# Altium integrated library Analog Devices Data Converters Digital-to-Analog Converters.IntLib: 2231 symbols (part 77 of 181)
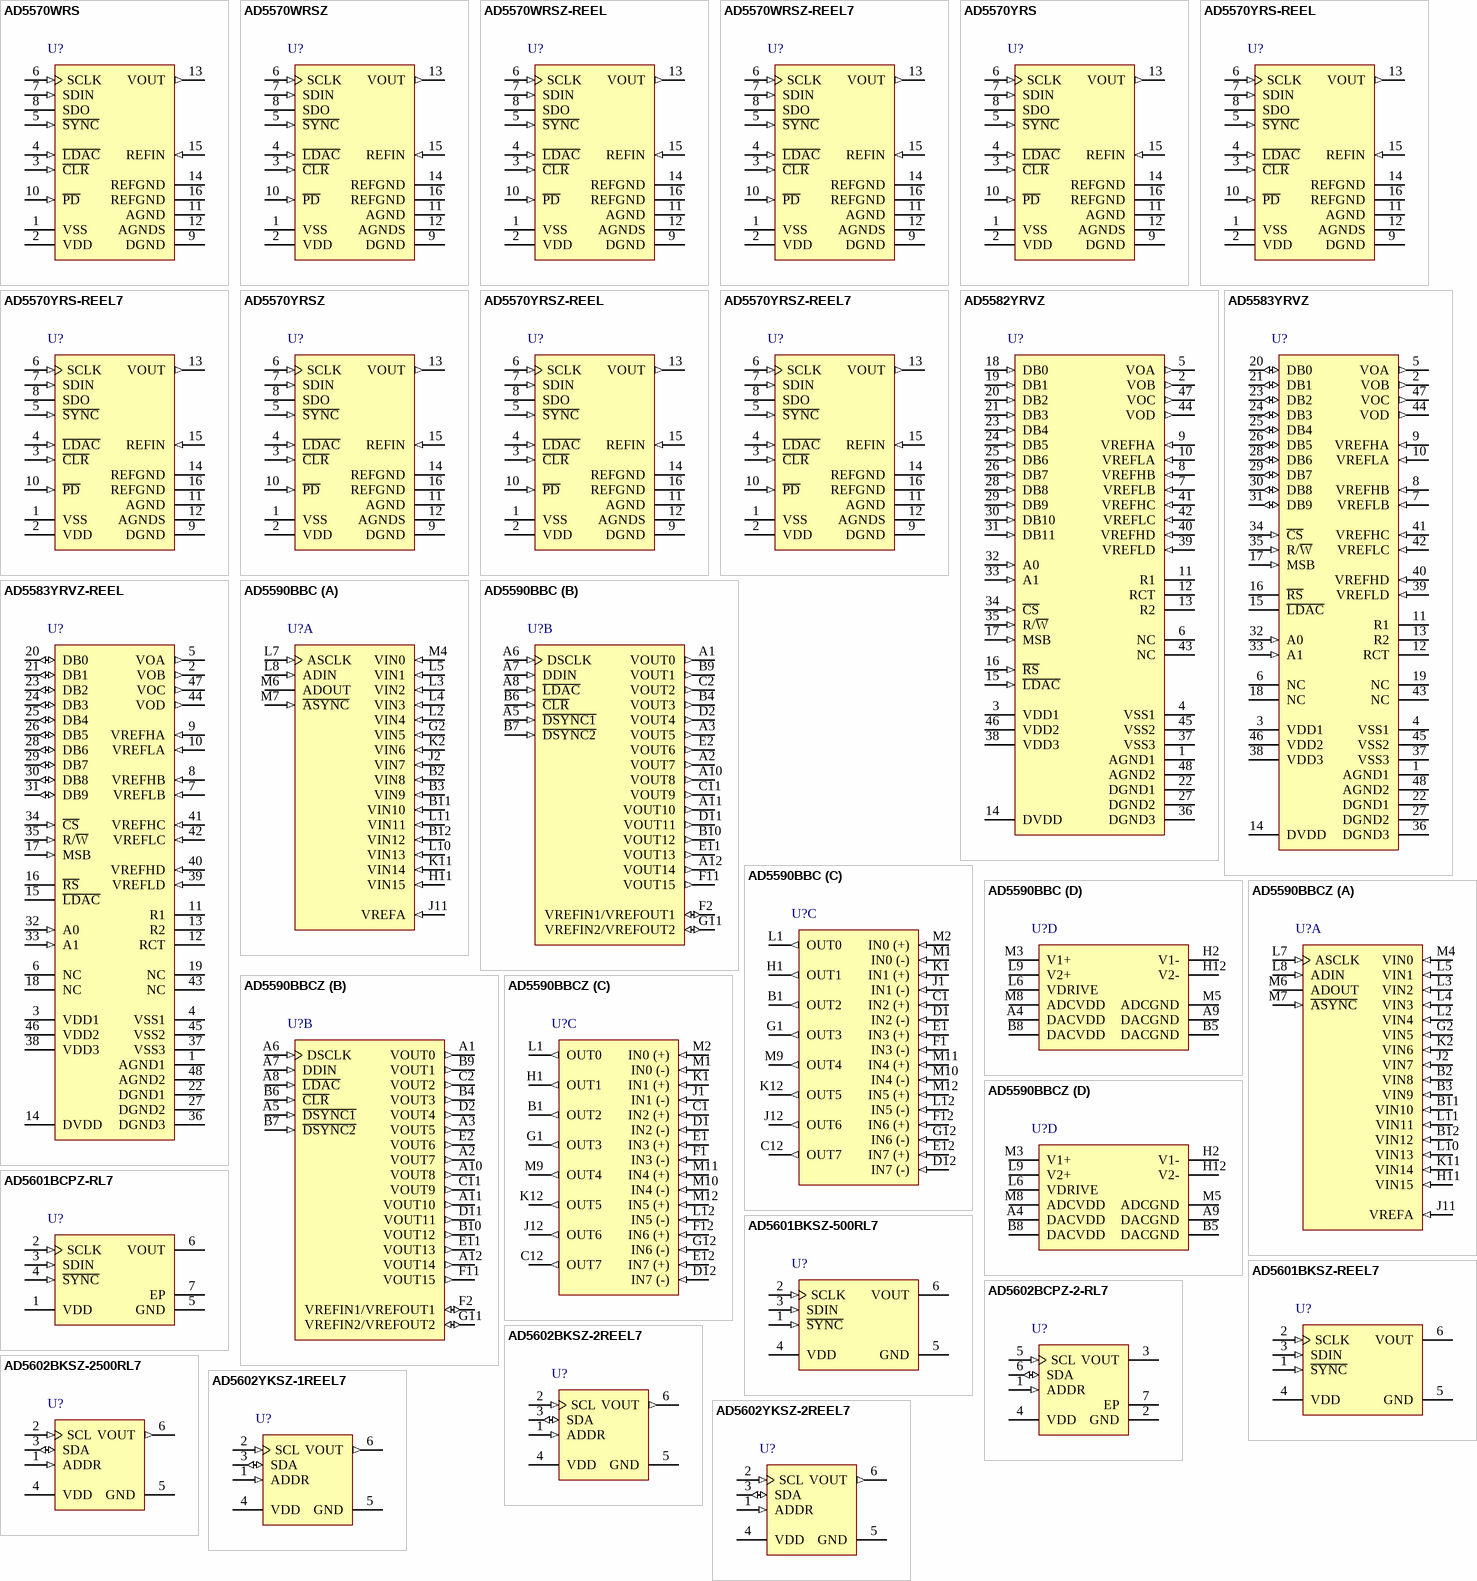
[diagram p190: symbols AD5570WRS to AD5602YKSZ-2REEL7]

## AD5590BBC
designator U?
16 Input, 16 Output Analog I/O Port with Integrated Amplifiers, -40 to +85 degC, BC-80-2, Tray; Generic Part Number: AD5590; Manufacturer: Analog Devices; PartNumber: AD5590BBC; # DAC Outputs: 16; Max V+: 5.25V; Op Pwr Diss: 25mw; Resolution (Bits): 12; Settling Time: 6µs; Single Supply: Yes; DatasheetVersion: Rev.A; PackageVersion: 011007-A; PackageReference: BC-80-2; PackageDescription: 80-Ball Chip Scale Package Ball Grid Array [CSP_BGA]; Supplier 1: Digi-Key; Supplier Part Number 1: AD5590BBC-ND; Supplier 2: Newark; Supplier Part Number 2: 19P8265; Supplier 3: Mouser; Supplier Part Number 3: 584-AD5590BBC; Packing: Tray; RoHS: N; Mounting Technology: Surface Mount; Code_JEDEC: MO-205-AC*; ComponentLink1Description: Manufacturer URL; ComponentLink1URL: http://www.analog.com/en/index.html; ComponentLink2Description: Datasheet; ComponentLink2URL: http://www.analog.com/static/imported-files/data_sheets/AD5590.pdf; ComponentLink3Description: Package Specification; ComponentLink3URL: http://www.analog.com/static/imported-files/packages/PKG_PDF/CSPBGA%20(BC)/BC_80_2.pdf; ComponentLink4Description: Product URL; ComponentLink4URL: http://www.analog.com/en/digital-to-analog-converters/da-converters/ad5590/products/product.html
footprint BC-80-2 (BGA, 80-Leads, Body 10x10mm, Pitch 0.8mm)
part A pins: B2 VIN8 (in) "Analog Input 0 through Analog Input 15. Sixteen single-ended analog input channels that are multiplexed into the on-chip track and hold. The analog input channel to be converted is selected by using the ADD3 through ADD0 (See Datasheet)", B3 VIN9 (in) "Analog Input 0 through Analog Input 15. Sixteen single-ended analog input channels that are multiplexed into the on-chip track and hold. The analog input channel to be converted is selected by using the ADD3 through ADD0 (See Datasheet)", B11 VIN10 (in) "Analog Input 0 through Analog Input 15. Sixteen single-ended analog input channels that are multiplexed into the on-chip track and hold. The analog input channel to be converted is selected by using the ADD3 through ADD0 (See Datasheet)", B12 VIN12 (in) "Analog Input 0 through Analog Input 15. Sixteen single-ended analog input channels that are multiplexed into the on-chip track and hold. The analog input channel to be converted is selected by using the ADD3 through ADD0 (See Datasheet)", G2 VIN5 (in) "Analog Input 0 through Analog Input 15. Sixteen single-ended analog input channels that are multiplexed into the on-chip track and hold. The analog input channel to be converted is selected by using the ADD3 through ADD0 (See Datasheet)", H11 VIN15 (in) "Analog Input 0 through Analog Input 15. Sixteen single-ended analog input channels that are multiplexed into the on-chip track and hold. The analog input channel to be converted is selected by using the ADD3 through ADD0 (See Datasheet)", J2 VIN7 (in) "Analog Input 0 through Analog Input 15. Sixteen single-ended analog input channels that are multiplexed into the on-chip track and hold. The analog input channel to be converted is selected by using the ADD3 through ADD0 (See Datasheet)", J11 VREFA (in) "Reference Input for the ADC Block. An external reference must be applied to this input. The voltage range for the external reference is 2.5 V +/- 1% for specified performance.", K2 VIN6 (in) "Analog Input 0 through Analog Input 15. Sixteen single-ended analog input channels that are multiplexed into the on-chip track and hold. The analog input channel to be converted is selected by using the ADD3 through ADD0 (See Datasheet)", K11 VIN14 (in) "Analog Input 0 through Analog Input 15. Sixteen single-ended analog input channels that are multiplexed into the on-chip track and hold. The analog input channel to be converted is selected by using the ADD3 through ADD0 (See Datasheet)", L2 VIN4 (in) "Analog Input 0 through Analog Input 15. Sixteen single-ended analog input channels that are multiplexed into the on-chip track and hold. The analog input channel to be converted is selected by using the ADD3 through ADD0 (See Datasheet)", L3 VIN2 (in) "Analog Input 0 through Analog Input 15. Sixteen single-ended analog input channels that are multiplexed into the on-chip track and hold. The analog input channel to be converted is selected by using the ADD3 through ADD0 (See Datasheet)", L4 VIN3 (in) "Analog Input 0 through Analog Input 15. Sixteen single-ended analog input channels that are multiplexed into the on-chip track and hold. The analog input channel to be converted is selected by using the ADD3 through ADD0 (See Datasheet)", L5 VIN1 (in) "Analog Input 0 through Analog Input 15. Sixteen single-ended analog input channels that are multiplexed into the on-chip track and hold. The analog input channel to be converted is selected by using the ADD3 through ADD0 (See Datasheet)", L7 ASCLK (in) "Serial Clock. Logic input. ASCLK provides the serial clock for accessing data from the ADC block. This clock input is also used as the clock source for the conversion process of the ADC.", L8 ADIN (in) "ADC Data In. Logic input. Data to be written to the control register of the ADC is provided on this input and is clocked into the register on the falling edge of ASCLK (see the Accessing the ADC Block section).", L10 VIN13 (in) "Analog Input 0 through Analog Input 15. Sixteen single-ended analog input channels that are multiplexed into the on-chip track and hold. The analog input channel to be converted is selected by using the ADD3 through ADD0 (See Datasheet)", L11 VIN11 (in) "Analog Input 0 through Analog Input 15. Sixteen single-ended analog input channels that are multiplexed into the on-chip track and hold. The analog input channel to be converted is selected by using the ADD3 through ADD0 (See Datasheet)", M4 VIN0 (in) "Analog Input 0 through Analog Input 15. Sixteen single-ended analog input channels that are multiplexed into the on-chip track and hold. The analog input channel to be converted is selected by using the ADD3 through ADD0 (See Datasheet)", M6 ADOUT (hiz) "Data Out. Logic output. The conversion result from the ADC block is provided on this output as a serial data stream. The bits are clocked out on the falling edge of the ASCLK input. The data stream consists of four address (See Datasheet)", M7 ~{ASYNC} (in) "Frame Synchronization Signal. Active low logic input. This input provides the dual function of  initiating ADC conversions and also frames the serial data transfer."
part B pins: A1 VOUT0 (out) "Analog Output Voltage from DAC0 to DAC7. D\S\Y\N\C\1\ is the frame synchronization signal for writing data to these DACs. The DAC is updated automatically if L\D\A\C\ is low, or on the falling edge of L\D\A\C\ if it is high. (See Datasheet)", A2 VOUT7 (out) "Analog Output Voltage from DAC0 to DAC7. D\S\Y\N\C\1\ is the frame synchronization signal for writing data to these DACs. The DAC is updated automatically if L\D\A\C\ is low, or on the falling edge of L\D\A\C\ if it is high. (See Datasheet)", A3 VOUT5 (out) "Analog Output Voltage from DAC0 to DAC7. D\S\Y\N\C\1\ is the frame synchronization signal for writing data to these DACs. The DAC is updated automatically if L\D\A\C\ is low, or on the falling edge of L\D\A\C\ if it is high. (See Datasheet)", A5 ~{DSYNC1} (in) "Active Low Control Input. This is the frame synchronization signal for the input data of DAC channels VOUT0 to VOUT7. When D\S\Y\N\C\1\ goes low, it powers on the DSCLK and DDIN buffers and enables the input shift register. (See Datasheet)", A6 DSCLK (in) "DAC Clock Input. Data is clocked into the input shift register on the falling edge of the serial clock input. Data can be transferred at rates of up to 50 MHz.", A7 DDIN (in) "DAC Data Input. This DAC has a 32-bit shift register. Data is clocked into the register on the falling edge of the serial clock input.", A8 ~{LDAC} (in) "Pulsing this pin low allows any or all DAC registers to be updated if the input registers have new data. This allows all DAC outputs to simultaneously update. Alternatively, this pin can be tied permanently low.", A10 VOUT8 (out) "Analog Output Voltage from DAC8 to DAC15. D\S\Y\N\C\2\ is the frame synchronization signal for writing data to these DACs. The DAC is updated automatically if L\D\A\C\ is low, or on the falling edge of L\D\A\C\ if it is high.(See Datasheet)", A11 VOUT10 (out) "Analog Output Voltage from DAC8 to DAC15. D\S\Y\N\C\2\ is the frame synchronization signal for writing data to these DACs. The DAC is updated automatically if L\D\A\C\ is low, or on the falling edge of L\D\A\C\ if it is high.(See Datasheet)", A12 VOUT14 (out) "Analog Output Voltage from DAC8 to DAC15. D\S\Y\N\C\2\ is the frame synchronization signal for writing data to these DACs. The DAC is updated automatically if L\D\A\C\ is low, or on the falling edge of L\D\A\C\ if it is high.(See Datasheet)", B4 VOUT3 (out) "Analog Output Voltage from DAC0 to DAC7. D\S\Y\N\C\1\ is the frame synchronization signal for writing data to these DACs. The DAC is updated automatically if L\D\A\C\ is low, or on the falling edge of L\D\A\C\ if it is high. (See Datasheet)", B6 ~{CLR} (in) "Asynchronous Clear Input. The C\L\R\ input is falling edge sensitive. When C\L\R\ is low, all L\D\A\C\ pulses are ignored. When C\L\R\ is activated, the input register and the DAC register are updated with the data contained (See Datasheet)", B7 ~{DSYNC2} (in) "Active Low Control Input. This is the frame synchronization signal for the input data of DAC channels VOUT8 to VOUT15. When D\S\Y\N\C\2\ goes low, it powers on the DSCLK and DDIN buffers and enables the input shift register. (See Datasheet)", B9 VOUT1 (out) "Analog Output Voltage from DAC0 to DAC7. D\S\Y\N\C\1\ is the frame synchronization signal for writing data to these DACs. The DAC is updated automatically if L\D\A\C\ is low, or on the falling edge of L\D\A\C\ if it is high. (See Datasheet)", B10 VOUT12 (out) "Analog Output Voltage from DAC8 to DAC15. D\S\Y\N\C\2\ is the frame synchronization signal for writing data to these DACs. The DAC is updated automatically if L\D\A\C\ is low, or on the falling edge of L\D\A\C\ if it is high.(See Datasheet)", C2 VOUT2 (out) "Analog Output Voltage from DAC0 to DAC7. D\S\Y\N\C\1\ is the frame synchronization signal for writing data to these DACs. The DAC is updated automatically if L\D\A\C\ is low, or on the falling edge of L\D\A\C\ if it is high. (See Datasheet)", C11 VOUT9 (out) "Analog Output Voltage from DAC8 to DAC15. D\S\Y\N\C\2\ is the frame synchronization signal for writing data to these DACs. The DAC is updated automatically if L\D\A\C\ is low, or on the falling edge of L\D\A\C\ if it is high.(See Datasheet)", D2 VOUT4 (out) "Analog Output Voltage from DAC0 to DAC7. D\S\Y\N\C\1\ is the frame synchronization signal for writing data to these DACs. The DAC is updated automatically if L\D\A\C\ is low, or on the falling edge of L\D\A\C\ if it is high. (See Datasheet)", D11 VOUT11 (out) "Analog Output Voltage from DAC8 to DAC15. D\S\Y\N\C\2\ is the frame synchronization signal for writing data to these DACs. The DAC is updated automatically if L\D\A\C\ is low, or on the falling edge of L\D\A\C\ if it is high.(See Datasheet)", E2 VOUT6 (out) "Analog Output Voltage from DAC0 to DAC7. D\S\Y\N\C\1\ is the frame synchronization signal for writing data to these DACs. The DAC is updated automatically if L\D\A\C\ is low, or on the falling edge of L\D\A\C\ if it is high. (See Datasheet)", E11 VOUT13 (out) "Analog Output Voltage from DAC8 to DAC15. D\S\Y\N\C\2\ is the frame synchronization signal for writing data to these DACs. The DAC is updated automatically if L\D\A\C\ is low, or on the falling edge of L\D\A\C\ if it is high.(See Datasheet)", F2 VREFIN1/VREFOUT1 (io) "Reference Input/Output Pin for DAC0 to DAC7. The DACs have a common pin for reference input and reference output. When using the internal reference, this is the reference output pin. When using an external reference, this is (See Datasheet)", F11 VOUT15 (out) "Analog Output Voltage from DAC8 to DAC15. D\S\Y\N\C\2\ is the frame synchronization signal for writing data to these DACs. The DAC is updated automatically if L\D\A\C\ is low, or on the falling edge of L\D\A\C\ if it is high.(See Datasheet)", G11 VREFIN2/VREFOUT2 (io) "Reference Input/Output Pin for DAC8 to DAC15. The DACs have a common pin for reference input and reference output. When using the internal reference, this is the reference output pin. When using an external reference, this (See Datasheet)"
part C pins: B1 OUT2 (out) "Output Terminals for Operational Amplifier 0 to Amplifier 7.", C1 IN2 (+) (in) "Noninverting Input Terminals for Operational Amplifier 0 to Amplifier 7.", C12 OUT7 (out) "Output Terminals for Operational Amplifier 0 to Amplifier 7.", D1 IN2 (-) (in) "Inverting Input Terminals for Operational Amplifier 0 to Amplifier 7.", D12 IN7 (-) (in) "Inverting Input Terminals for Operational Amplifier 0 to Amplifier 7.", E1 IN3 (+) (in) "Noninverting Input Terminals for Operational Amplifier 0 to Amplifier 7.", E12 IN7 (+) (in) "Noninverting Input Terminals for Operational Amplifier 0 to Amplifier 7.", F1 IN3 (-) (in) "Inverting Input Terminals for Operational Amplifier 0 to Amplifier 7.", F12 IN6 (+) (in) "Noninverting Input Terminals for Operational Amplifier 0 to Amplifier 7.", G1 OUT3 (out) "Output Terminals for Operational Amplifier 0 to Amplifier 7.", G12 IN6 (-) (in) "Inverting Input Terminals for Operational Amplifier 0 to Amplifier 7.", H1 OUT1 (out) "Output Terminals for Operational Amplifier 0 to Amplifier 7.", J1 IN1 (-) (in) "Inverting Input Terminals for Operational Amplifier 0 to Amplifier 7.", J12 OUT6 (out) "Output Terminals for Operational Amplifier 0 to Amplifier 7.", K1 IN1 (+) (in) "Noninverting Input Terminals for Operational Amplifier 0 to Amplifier 7.", K12 OUT5 (out) "Output Terminals for Operational Amplifier 0 to Amplifier 7.", L1 OUT0 (out) "Output Terminals for Operational Amplifier 0 to Amplifier 7.", L12 IN5 (-) (in) "Inverting Input Terminals for Operational Amplifier 0 to Amplifier 7.", M1 IN0 (-) (in) "Inverting Input Terminals for Operational Amplifier 0 to Amplifier 7.", M2 IN0 (+) (in) "Noninverting Input Terminals for Operational Amplifier 0 to Amplifier 7.", M9 OUT4 (out) "Output Terminals for Operational Amplifier 0 to Amplifier 7.", M10 IN4 (-) (in) "Inverting Input Terminals for Operational Amplifier 0 to Amplifier 7.", M11 IN4 (+) (in) "Noninverting Input Terminals for Operational Amplifier 0 to Amplifier 7.", M12 IN5 (+) (in) "Noninverting Input Terminals for Operational Amplifier 0 to Amplifier 7."
part D pins: A4 DACVDD (power) "Power Supply Input for the DAC Block. The DAC can operate from 4.5 V to 5.25 V, and the supply should be decoupled with a 10 uF in parallel with a 0.1 uF capacitor to DACGND. The two DACVDD pins must be connected together.", A9 DACGND (power) "Ground Reference Point for the DAC Block. All DAC analog/digital input/output signals and any external reference signal should be referred to this DACGND voltage. The two DACGND pins should be connected together.", B5 DACGND (power) "Ground Reference Point for the DAC Block. All DAC analog/digital input/output signals and any external reference signal should be referred to this DACGND voltage. The two DACGND pins should be connected together.", B8 DACVDD (power) "Power Supply Input for the DAC Block. The DAC can operate from 4.5 V to 5.25 V, and the supply should be decoupled with a 10 uF in parallel with a 0.1 uF capacitor to DACGND. The two DACVDD pins must be connected together.", H2 V1- (power) "Negative Supply Input for Amplifier 0 to Amplifier 3.", H12 V2- (power) "Negative Supply Input for Amplifier 4 to Amplifier 7.", L6 VDRIVE (power) "Logic Power Supply Input. The voltage supplied at this pin determines at what voltage the serial interface of the ADC block operates.", L9 V2+ (power) "Positive Supply Input for Amplifier 4 to Amplifier 7. The supply for these amplifiers is independent of other supplies and can be operated with a different supply if required. The pin should be decoupled to V2- with a 10 uF (See Datasheet)", M3 V1+ (power) "Positive Supply Input for the amplifier 0 to amplifier 3. The supply for these amplifiers is independent of other supplies and can be operated with a different supply if required. The pin should be decoupled to V1- with a 10 (See Datasheet)", M5 ADCGND (power) "Ground Reference Point for the ADC Block. All ADC analog/digital input/output signals and any external reference signal should be referred to this ADCGND voltage.", M8 ADCVDD (power) "Power Supply Input for the ADC Block. The ADC can operate from 4.5 V to 5.25 V, and the supply should be decoupled with a 10 uF in parallel with a 0.1 uF capacitor to ADCGND."

## AD5590BBCZ
designator U?
16 Input, 16 Output Analog I/O Port with Integrated Amplifiers, -40 to +85 degC, BC-80-2, Pb-Free, Tray; Generic Part Number: AD5590; Manufacturer: Analog Devices; PartNumber: AD5590BBCZ; # DAC Outputs: 16; Max V+: 5.25V; Op Pwr Diss: 25mw; Resolution (Bits): 12; Settling Time: 6µs; Single Supply: Yes; DatasheetVersion: Rev.A; PackageVersion: 011007-A; PackageReference: BC-80-2; PackageDescription: 80-Ball Chip Scale Package Ball Grid Array [CSP_BGA]; Supplier 1: Digi-Key; Supplier Part Number 1: AD5590BBCZ-ND; Supplier 2: Newark; Supplier Part Number 2: 19P8266; Supplier 3: Mouser; Supplier Part Number 3: 584-AD5590BBCZ; Packing: Tray; RoHS: Y; Mounting Technology: Surface Mount; Code_JEDEC: MO-205-AC*; ComponentLink1Description: Manufacturer URL; ComponentLink1URL: http://www.analog.com/en/index.html; ComponentLink2Description: Datasheet; ComponentLink2URL: http://www.analog.com/static/imported-files/data_sheets/AD5590.pdf; ComponentLink3Description: Package Specification; ComponentLink3URL: http://www.analog.com/static/imported-files/packages/PKG_PDF/CSPBGA%20(BC)/BC_80_2.pdf; ComponentLink4Description: Product URL; ComponentLink4URL: http://www.analog.com/en/digital-to-analog-converters/da-converters/ad5590/products/product.html
footprint BC-80-2 (BGA, 80-Leads, Body 10x10mm, Pitch 0.8mm)
part A pins: B2 VIN8 (in) "Analog Input 0 through Analog Input 15. Sixteen single-ended analog input channels that are multiplexed into the on-chip track and hold. The analog input channel to be converted is selected by using the ADD3 through ADD0 (See Datasheet)", B3 VIN9 (in) "Analog Input 0 through Analog Input 15. Sixteen single-ended analog input channels that are multiplexed into the on-chip track and hold. The analog input channel to be converted is selected by using the ADD3 through ADD0 (See Datasheet)", B11 VIN10 (in) "Analog Input 0 through Analog Input 15. Sixteen single-ended analog input channels that are multiplexed into the on-chip track and hold. The analog input channel to be converted is selected by using the ADD3 through ADD0 (See Datasheet)", B12 VIN12 (in) "Analog Input 0 through Analog Input 15. Sixteen single-ended analog input channels that are multiplexed into the on-chip track and hold. The analog input channel to be converted is selected by using the ADD3 through ADD0 (See Datasheet)", G2 VIN5 (in) "Analog Input 0 through Analog Input 15. Sixteen single-ended analog input channels that are multiplexed into the on-chip track and hold. The analog input channel to be converted is selected by using the ADD3 through ADD0 (See Datasheet)", H11 VIN15 (in) "Analog Input 0 through Analog Input 15. Sixteen single-ended analog input channels that are multiplexed into the on-chip track and hold. The analog input channel to be converted is selected by using the ADD3 through ADD0 (See Datasheet)", J2 VIN7 (in) "Analog Input 0 through Analog Input 15. Sixteen single-ended analog input channels that are multiplexed into the on-chip track and hold. The analog input channel to be converted is selected by using the ADD3 through ADD0 (See Datasheet)", J11 VREFA (in) "Reference Input for the ADC Block. An external reference must be applied to this input. The voltage range for the external reference is 2.5 V +/- 1% for specified performance.", K2 VIN6 (in) "Analog Input 0 through Analog Input 15. Sixteen single-ended analog input channels that are multiplexed into the on-chip track and hold. The analog input channel to be converted is selected by using the ADD3 through ADD0 (See Datasheet)", K11 VIN14 (in) "Analog Input 0 through Analog Input 15. Sixteen single-ended analog input channels that are multiplexed into the on-chip track and hold. The analog input channel to be converted is selected by using the ADD3 through ADD0 (See Datasheet)", L2 VIN4 (in) "Analog Input 0 through Analog Input 15. Sixteen single-ended analog input channels that are multiplexed into the on-chip track and hold. The analog input channel to be converted is selected by using the ADD3 through ADD0 (See Datasheet)", L3 VIN2 (in) "Analog Input 0 through Analog Input 15. Sixteen single-ended analog input channels that are multiplexed into the on-chip track and hold. The analog input channel to be converted is selected by using the ADD3 through ADD0 (See Datasheet)", L4 VIN3 (in) "Analog Input 0 through Analog Input 15. Sixteen single-ended analog input channels that are multiplexed into the on-chip track and hold. The analog input channel to be converted is selected by using the ADD3 through ADD0 (See Datasheet)", L5 VIN1 (in) "Analog Input 0 through Analog Input 15. Sixteen single-ended analog input channels that are multiplexed into the on-chip track and hold. The analog input channel to be converted is selected by using the ADD3 through ADD0 (See Datasheet)", L7 ASCLK (in) "Serial Clock. Logic input. ASCLK provides the serial clock for accessing data from the ADC block. This clock input is also used as the clock source for the conversion process of the ADC.", L8 ADIN (in) "ADC Data In. Logic input. Data to be written to the control register of the ADC is provided on this input and is clocked into the register on the falling edge of ASCLK (see the Accessing the ADC Block section).", L10 VIN13 (in) "Analog Input 0 through Analog Input 15. Sixteen single-ended analog input channels that are multiplexed into the on-chip track and hold. The analog input channel to be converted is selected by using the ADD3 through ADD0 (See Datasheet)", L11 VIN11 (in) "Analog Input 0 through Analog Input 15. Sixteen single-ended analog input channels that are multiplexed into the on-chip track and hold. The analog input channel to be converted is selected by using the ADD3 through ADD0 (See Datasheet)", M4 VIN0 (in) "Analog Input 0 through Analog Input 15. Sixteen single-ended analog input channels that are multiplexed into the on-chip track and hold. The analog input channel to be converted is selected by using the ADD3 through ADD0 (See Datasheet)", M6 ADOUT (hiz) "Data Out. Logic output. The conversion result from the ADC block is provided on this output as a serial data stream. The bits are clocked out on the falling edge of the ASCLK input. The data stream consists of four address (See Datasheet)", M7 ~{ASYNC} (in) "Frame Synchronization Signal. Active low logic input. This input provides the dual function of  initiating ADC conversions and also frames the serial data transfer."
part B pins: A1 VOUT0 (out) "Analog Output Voltage from DAC0 to DAC7. D\S\Y\N\C\1\ is the frame synchronization signal for writing data to these DACs. The DAC is updated automatically if L\D\A\C\ is low, or on the falling edge of L\D\A\C\ if it is high. (See Datasheet)", A2 VOUT7 (out) "Analog Output Voltage from DAC0 to DAC7. D\S\Y\N\C\1\ is the frame synchronization signal for writing data to these DACs. The DAC is updated automatically if L\D\A\C\ is low, or on the falling edge of L\D\A\C\ if it is high. (See Datasheet)", A3 VOUT5 (out) "Analog Output Voltage from DAC0 to DAC7. D\S\Y\N\C\1\ is the frame synchronization signal for writing data to these DACs. The DAC is updated automatically if L\D\A\C\ is low, or on the falling edge of L\D\A\C\ if it is high. (See Datasheet)", A5 ~{DSYNC1} (in) "Active Low Control Input. This is the frame synchronization signal for the input data of DAC channels VOUT0 to VOUT7. When D\S\Y\N\C\1\ goes low, it powers on the DSCLK and DDIN buffers and enables the input shift register. (See Datasheet)", A6 DSCLK (in) "DAC Clock Input. Data is clocked into the input shift register on the falling edge of the serial clock input. Data can be transferred at rates of up to 50 MHz.", A7 DDIN (in) "DAC Data Input. This DAC has a 32-bit shift register. Data is clocked into the register on the falling edge of the serial clock input.", A8 ~{LDAC} (in) "Pulsing this pin low allows any or all DAC registers to be updated if the input registers have new data. This allows all DAC outputs to simultaneously update. Alternatively, this pin can be tied permanently low.", A10 VOUT8 (out) "Analog Output Voltage from DAC8 to DAC15. D\S\Y\N\C\2\ is the frame synchronization signal for writing data to these DACs. The DAC is updated automatically if L\D\A\C\ is low, or on the falling edge of L\D\A\C\ if it is high.(See Datasheet)", A11 VOUT10 (out) "Analog Output Voltage from DAC8 to DAC15. D\S\Y\N\C\2\ is the frame synchronization signal for writing data to these DACs. The DAC is updated automatically if L\D\A\C\ is low, or on the falling edge of L\D\A\C\ if it is high.(See Datasheet)", A12 VOUT14 (out) "Analog Output Voltage from DAC8 to DAC15. D\S\Y\N\C\2\ is the frame synchronization signal for writing data to these DACs. The DAC is updated automatically if L\D\A\C\ is low, or on the falling edge of L\D\A\C\ if it is high.(See Datasheet)", B4 VOUT3 (out) "Analog Output Voltage from DAC0 to DAC7. D\S\Y\N\C\1\ is the frame synchronization signal for writing data to these DACs. The DAC is updated automatically if L\D\A\C\ is low, or on the falling edge of L\D\A\C\ if it is high. (See Datasheet)", B6 ~{CLR} (in) "Asynchronous Clear Input. The C\L\R\ input is falling edge sensitive. When C\L\R\ is low, all L\D\A\C\ pulses are ignored. When C\L\R\ is activated, the input register and the DAC register are updated with the data contained (See Datasheet)", B7 ~{DSYNC2} (in) "Active Low Control Input. This is the frame synchronization signal for the input data of DAC channels VOUT8 to VOUT15. When D\S\Y\N\C\2\ goes low, it powers on the DSCLK and DDIN buffers and enables the input shift register. (See Datasheet)", B9 VOUT1 (out) "Analog Output Voltage from DAC0 to DAC7. D\S\Y\N\C\1\ is the frame synchronization signal for writing data to these DACs. The DAC is updated automatically if L\D\A\C\ is low, or on the falling edge of L\D\A\C\ if it is high. (See Datasheet)", B10 VOUT12 (out) "Analog Output Voltage from DAC8 to DAC15. D\S\Y\N\C\2\ is the frame synchronization signal for writing data to these DACs. The DAC is updated automatically if L\D\A\C\ is low, or on the falling edge of L\D\A\C\ if it is high.(See Datasheet)", C2 VOUT2 (out) "Analog Output Voltage from DAC0 to DAC7. D\S\Y\N\C\1\ is the frame synchronization signal for writing data to these DACs. The DAC is updated automatically if L\D\A\C\ is low, or on the falling edge of L\D\A\C\ if it is high. (See Datasheet)", C11 VOUT9 (out) "Analog Output Voltage from DAC8 to DAC15. D\S\Y\N\C\2\ is the frame synchronization signal for writing data to these DACs. The DAC is updated automatically if L\D\A\C\ is low, or on the falling edge of L\D\A\C\ if it is high.(See Datasheet)", D2 VOUT4 (out) "Analog Output Voltage from DAC0 to DAC7. D\S\Y\N\C\1\ is the frame synchronization signal for writing data to these DACs. The DAC is updated automatically if L\D\A\C\ is low, or on the falling edge of L\D\A\C\ if it is high. (See Datasheet)", D11 VOUT11 (out) "Analog Output Voltage from DAC8 to DAC15. D\S\Y\N\C\2\ is the frame synchronization signal for writing data to these DACs. The DAC is updated automatically if L\D\A\C\ is low, or on the falling edge of L\D\A\C\ if it is high.(See Datasheet)", E2 VOUT6 (out) "Analog Output Voltage from DAC0 to DAC7. D\S\Y\N\C\1\ is the frame synchronization signal for writing data to these DACs. The DAC is updated automatically if L\D\A\C\ is low, or on the falling edge of L\D\A\C\ if it is high. (See Datasheet)", E11 VOUT13 (out) "Analog Output Voltage from DAC8 to DAC15. D\S\Y\N\C\2\ is the frame synchronization signal for writing data to these DACs. The DAC is updated automatically if L\D\A\C\ is low, or on the falling edge of L\D\A\C\ if it is high.(See Datasheet)", F2 VREFIN1/VREFOUT1 (io) "Reference Input/Output Pin for DAC0 to DAC7. The DACs have a common pin for reference input and reference output. When using the internal reference, this is the reference output pin. When using an external reference, this is (See Datasheet)", F11 VOUT15 (out) "Analog Output Voltage from DAC8 to DAC15. D\S\Y\N\C\2\ is the frame synchronization signal for writing data to these DACs. The DAC is updated automatically if L\D\A\C\ is low, or on the falling edge of L\D\A\C\ if it is high.(See Datasheet)", G11 VREFIN2/VREFOUT2 (io) "Reference Input/Output Pin for DAC8 to DAC15. The DACs have a common pin for reference input and reference output. When using the internal reference, this is the reference output pin. When using an external reference, this (See Datasheet)"
part C pins: B1 OUT2 (out) "Output Terminals for Operational Amplifier 0 to Amplifier 7.", C1 IN2 (+) (in) "Noninverting Input Terminals for Operational Amplifier 0 to Amplifier 7.", C12 OUT7 (out) "Output Terminals for Operational Amplifier 0 to Amplifier 7.", D1 IN2 (-) (in) "Inverting Input Terminals for Operational Amplifier 0 to Amplifier 7.", D12 IN7 (-) (in) "Inverting Input Terminals for Operational Amplifier 0 to Amplifier 7.", E1 IN3 (+) (in) "Noninverting Input Terminals for Operational Amplifier 0 to Amplifier 7.", E12 IN7 (+) (in) "Noninverting Input Terminals for Operational Amplifier 0 to Amplifier 7.", F1 IN3 (-) (in) "Inverting Input Terminals for Operational Amplifier 0 to Amplifier 7.", F12 IN6 (+) (in) "Noninverting Input Terminals for Operational Amplifier 0 to Amplifier 7.", G1 OUT3 (out) "Output Terminals for Operational Amplifier 0 to Amplifier 7.", G12 IN6 (-) (in) "Inverting Input Terminals for Operational Amplifier 0 to Amplifier 7.", H1 OUT1 (out) "Output Terminals for Operational Amplifier 0 to Amplifier 7.", J1 IN1 (-) (in) "Inverting Input Terminals for Operational Amplifier 0 to Amplifier 7.", J12 OUT6 (out) "Output Terminals for Operational Amplifier 0 to Amplifier 7.", K1 IN1 (+) (in) "Noninverting Input Terminals for Operational Amplifier 0 to Amplifier 7.", K12 OUT5 (out) "Output Terminals for Operational Amplifier 0 to Amplifier 7.", L1 OUT0 (out) "Output Terminals for Operational Amplifier 0 to Amplifier 7.", L12 IN5 (-) (in) "Inverting Input Terminals for Operational Amplifier 0 to Amplifier 7.", M1 IN0 (-) (in) "Inverting Input Terminals for Operational Amplifier 0 to Amplifier 7.", M2 IN0 (+) (in) "Noninverting Input Terminals for Operational Amplifier 0 to Amplifier 7.", M9 OUT4 (out) "Output Terminals for Operational Amplifier 0 to Amplifier 7.", M10 IN4 (-) (in) "Inverting Input Terminals for Operational Amplifier 0 to Amplifier 7.", M11 IN4 (+) (in) "Noninverting Input Terminals for Operational Amplifier 0 to Amplifier 7.", M12 IN5 (+) (in) "Noninverting Input Terminals for Operational Amplifier 0 to Amplifier 7."
part D pins: A4 DACVDD (power) "Power Supply Input for the DAC Block. The DAC can operate from 4.5 V to 5.25 V, and the supply should be decoupled with a 10 uF in parallel with a 0.1 uF capacitor to DACGND. The two DACVDD pins must be connected together.", A9 DACGND (power) "Ground Reference Point for the DAC Block. All DAC analog/digital input/output signals and any external reference signal should be referred to this DACGND voltage. The two DACGND pins should be connected together.", B5 DACGND (power) "Ground Reference Point for the DAC Block. All DAC analog/digital input/output signals and any external reference signal should be referred to this DACGND voltage. The two DACGND pins should be connected together.", B8 DACVDD (power) "Power Supply Input for the DAC Block. The DAC can operate from 4.5 V to 5.25 V, and the supply should be decoupled with a 10 uF in parallel with a 0.1 uF capacitor to DACGND. The two DACVDD pins must be connected together.", H2 V1- (power) "Negative Supply Input for Amplifier 0 to Amplifier 3.", H12 V2- (power) "Negative Supply Input for Amplifier 4 to Amplifier 7.", L6 VDRIVE (power) "Logic Power Supply Input. The voltage supplied at this pin determines at what voltage the serial interface of the ADC block operates.", L9 V2+ (power) "Positive Supply Input for Amplifier 4 to Amplifier 7. The supply for these amplifiers is independent of other supplies and can be operated with a different supply if required. The pin should be decoupled to V2- with a 10 uF (See Datasheet)", M3 V1+ (power) "Positive Supply Input for the amplifier 0 to amplifier 3. The supply for these amplifiers is independent of other supplies and can be operated with a different supply if required. The pin should be decoupled to V1- with a 10 (See Datasheet)", M5 ADCGND (power) "Ground Reference Point for the ADC Block. All ADC analog/digital input/output signals and any external reference signal should be referred to this ADCGND voltage.", M8 ADCVDD (power) "Power Supply Input for the ADC Block. The ADC can operate from 4.5 V to 5.25 V, and the supply should be decoupled with a 10 uF in parallel with a 0.1 uF capacitor to ADCGND."

## AD5601BCPZ-RL7
designator U?
Single 8-Bit nanoDAC with SPI Interface, 2.7 to 5.5 V, <100 uA, -40 to +125 degC, CP-6-5, Pb-Free, Reel; Generic Part Number: AD5601; Manufacturer: Analog Devices; PartNumber: AD5601BCPZ-RL7; # DAC Outputs: 1; Max V+: 5.5V; Op Pwr Diss: 550µW; Resolution (Bits): 8; Settling Time: 6µs; Single Supply: Yes; DatasheetVersion: Rev.F; PackageVersion: 10-18-2010 A; PackageReference: CP-6-5; PackageDescription: 6-Lead Lead Frame Chip Scale Package [LFCSP_WD] 2 × 3 mm Body, Very Very Thin, Dual Lead; Supplier 1: Digi-Key; Supplier Part Number 1: AD5601BCPZ-RL7TR-ND; Supplier 2: Digi-Key; Supplier Part Number 2: AD5601BCPZ-RL7CT-ND; Supplier 3: Digi-Key; Supplier Part Number 3: AD5601BCPZ-RL7DKR-ND; Supplier 4: Farnell; Supplier Part Number 4: 2102387; Supplier 5: Newark; Supplier Part Number 5: 86T6087; Supplier 6: Newark; Supplier Part Number 6: 92T3211; Supplier 7: Mouser; Supplier Part Number 7: 584-AD5601BCPZ-R7; Packing: Reel; RoHS: Y; Mounting Technology: Surface Mount; Code_JEDEC: MO-229; ComponentLink1Description: Manufacturer URL; ComponentLink1URL: http://www.analog.com/en/index.html; ComponentLink2Description: Datasheet; ComponentLink2URL: http://www.analog.com/static/imported-files/data_sheets/AD5601_5611_5621.pdf; ComponentLink3Description: Package Specification; ComponentLink3URL: http://www.analog.com/static/imported-files/data_sheets/AD5062.pdf; ComponentLink4Description: Product URL; ComponentLink4URL: http://www.analog.com/en/digital-to-analog-converters/da-converters/ad5601/products/product.html
footprint CP-6-5_N (SON, 6-Leads, Body 3x2mm, Pitch 0.65mm, Thermal Pad 1.6x1.4mm, IPC Medium Density)
footprint CP-6-5_L (SON, 6-Leads, Body 3x2mm, Pitch 0.65mm, Thermal Pad 1.6x1.4mm, IPC High Density)
footprint CP-6-5_M (SON, 6-Leads, Body 3x2mm, Pitch 0.65mm, Thermal Pad 1.6x1.4mm, IPC Low Density)
pins: 1 VDD (power) "Power Supply Input. The AD5601 can be operated from 2.7 V to 5.5 V. VDD should be decoupled to GND.", 2 SCLK (in) "Serial Clock Input. Data is clocked into the input shift register on the falling edge of the serial clock input. Data can be transferred at rates up to 30 MHz", 3 SDIN (in) "Serial Data Input. This device has a 16-bit shift register. Data is clocked into the register on the falling edge of the serial clock input.", 4 ~{SYNC} (in) "Level-Triggered Control Input (Active Low). This is the frame synchronization signal for the input data. When S\Y\N\C\ goes low, it enables the input shift register, and data is transferred in on the falling edges of the (See Datasheet)", 5 GND (power) "Ground. Ground reference point for all circuitry on the AD5601.", 6 VOUT (hiz) "Analog Output Voltage from the DAC. The output amplifier has rail-to-rail operation.", 7 EP (power) "Exposed Pad. Connect to GND."

## AD5601BKSZ-500RL7
designator U?
Single 8-Bit nanoDAC with SPI Interface, 2.7 to 5.5 V, <100 uA, -40 to +125 degC, KS-6, Pb-Free, Reel; Generic Part Number: AD5601; Manufacturer: Analog Devices; PartNumber: AD5601BKSZ-500RL7; # DAC Outputs: 1; Max V+: 5.5V; Op Pwr Diss: 550µW; Resolution (Bits): 8; Settling Time: 6µs; Single Supply: Yes; DatasheetVersion: Rev.F; PackageVersion: 072809-A; PackageReference: KS-6; PackageDescription: 6-Lead Thin Shrink Small Outline Transistor Package [SC70]; Supplier 1: Digi-Key; Supplier Part Number 1: AD5601BKSZ-500RL7TR-ND; Supplier 2: Digi-Key; Supplier Part Number 2: AD5601BKSZ-500RL7CT-ND; Supplier 3: Digi-Key; Supplier Part Number 3: AD5601BKSZ-500RL7DKR-ND; Supplier 4: Farnell; Supplier Part Number 4: 1117913RL; Supplier 5: Farnell; Supplier Part Number 5: 1117913; Supplier 6: Newark; Supplier Part Number 6: 19M0820; Supplier 7: Newark; Supplier Part Number 7: 59K4257; Supplier 8: Mouser; Supplier Part Number 8: 584-AD5601BKSZ-500R7; Packing: Reel; RoHS: Y; Mounting Technology: Surface Mount; Code_JEDEC: MO-203-AB; ComponentLink1Description: Manufacturer URL; ComponentLink1URL: http://www.analog.com/en/index.html; ComponentLink2Description: Datasheet; ComponentLink2URL: http://www.analog.com/static/imported-files/data_sheets/AD5601_5611_5621.pdf; ComponentLink3Description: Package Specification; ComponentLink3URL: http://www.analog.com/static/imported-files/packages/PKG_PDF/SC70(KS)/KS_6.pdf; ComponentLink4Description: Product URL; ComponentLink4URL: http://www.analog.com/en/digital-to-analog-converters/da-converters/ad5601/products/product.html
footprint KS-6_N (SOT23, 6-Leads, Body 2x1.3mm, Pitch 0.65mm, Lead Span 2.1mm, IPC Medium Density)
footprint KS-6_L (SOT23, 6-Leads, Body 2x1.3mm, Pitch 0.65mm, Lead Span 2.1mm, IPC High Density)
footprint KS-6_M (SOT23, 6-Leads, Body 2x1.3mm, Pitch 0.65mm, Lead Span 2.1mm, IPC Low Density)
pins: 1 ~{SYNC} (in) "Level-Triggered Control Input (Active Low). This is the frame synchronization signal for the input data. When S\Y\N\C\ goes low, it enables the input shift register, and data is transferred in on the falling edges of the (See Datasheet)", 2 SCLK (in) "Serial Clock Input. Data is clocked into the input shift register on the falling edge of the serial clock input. Data can be transferred at rates up to 30 MHz", 3 SDIN (in) "Serial Data Input. This device has a 16-bit shift register. Data is clocked into the register on the falling edge of the serial clock input.", 4 VDD (power) "Power Supply Input. The AD5601/AD5611/AD5621 can be operated from 2.7 V to 5.5 V. VDD should be decoupled to GND.", 5 GND (power) "Ground. Ground reference point for all circuitry on the AD5601.", 6 VOUT (hiz) "Analog Output Voltage from the DAC. The output amplifier has rail-to-rail operation."

## AD5601BKSZ-REEL7
designator U?
Single 8-Bit nanoDAC with SPI Interface in LFCSP and SC70, 2.7 to 5.5 V, <100 uA, -40 to +125 degC, KS-6, Pb-Free, Reel; Generic Part Number: AD5601; Manufacturer: Analog Devices; PartNumber: AD5601BKSZ-REEL7; # DAC Outputs: 1; Max V+: 5.5V; Op Pwr Diss: 550µW; Resolution (Bits): 8; Settling Time: 6µs; Single Supply: Yes; DatasheetVersion: Rev.F; PackageVersion: 072809-A; PackageReference: KS-6; PackageDescription: 6-Lead Thin Shrink Small Outline Transistor Package [SC70]; Supplier 1: Digi-Key; Supplier Part Number 1: AD5601BKSZ-REEL7TR-ND; Supplier 2: Digi-Key; Supplier Part Number 2: AD5601BKSZ-REEL7CT-ND; Supplier 3: Digi-Key; Supplier Part Number 3: AD5601BKSZ-REEL7DKR-ND; Supplier 4: Farnell; Supplier Part Number 4: 2312971; Supplier 5: Newark; Supplier Part Number 5: 59K4256; Supplier 6: Newark; Supplier Part Number 6: 67W3160; Supplier 7: Mouser; Supplier Part Number 7: 584-AD5601BKSZ-R7; Packing: Reel; RoHS: Y; Mounting Technology: Surface Mount; Code_JEDEC: MO-203-AB; ComponentLink1Description: Manufacturer URL; ComponentLink1URL: http://www.analog.com/en/index.html; ComponentLink2Description: Datasheet; ComponentLink2URL: http://www.analog.com/static/imported-files/data_sheets/AD5601_5611_5621.pdf; ComponentLink3Description: Package Specification; ComponentLink3URL: http://www.analog.com/static/imported-files/packages/PKG_PDF/SC70(KS)/KS_6.pdf; ComponentLink4Description: Product URL; ComponentLink4URL: http://www.analog.com/en/digital-to-analog-converters/da-converters/ad5601/products/product.html
footprint KS-6_N (SOT23, 6-Leads, Body 2x1.3mm, Pitch 0.65mm, Lead Span 2.1mm, IPC Medium Density)
footprint KS-6_L (SOT23, 6-Leads, Body 2x1.3mm, Pitch 0.65mm, Lead Span 2.1mm, IPC High Density)
footprint KS-6_M (SOT23, 6-Leads, Body 2x1.3mm, Pitch 0.65mm, Lead Span 2.1mm, IPC Low Density)
pins: 1 ~{SYNC} (in) "Level-Triggered Control Input (Active Low). This is the frame synchronization signal for the input data. When S\Y\N\C\ goes low, it enables the input shift register, and data is transferred in on the falling edges of the (See Datasheet)", 2 SCLK (in) "Serial Clock Input. Data is clocked into the input shift register on the falling edge of the serial clock input. Data can be transferred at rates up to 30 MHz", 3 SDIN (in) "Serial Data Input. This device has a 16-bit shift register. Data is clocked into the register on the falling edge of the serial clock input.", 4 VDD (power) "Power Supply Input. The AD5601/AD5611/AD5621 can be operated from 2.7 V to 5.5 V. VDD should be decoupled to GND.", 5 GND (power) "Ground. Ground reference point for all circuitry on the AD5601.", 6 VOUT (hiz) "Analog Output Voltage from the DAC. The output amplifier has rail-to-rail operation."

## AD5602BCPZ-2-RL7
designator U?
Single 8-Bit nanoDAC with I2C Interface, 2.7 to 5.5 V, <100 uA, -40 to +85 degC, CP-6-5, Pb-Free, Reel; Generic Part Number: AD5602; Manufacturer: Analog Devices; PartNumber: AD5602BCPZ-2-RL7; # DAC Outputs: 1; Max V+: 5.5V; Op Pwr Diss: 500µW; Resolution (Bits): 8; Settling Time: 6µs; Single Supply: Yes; DatasheetVersion: Rev.C; PackageVersion: 10-18-2010 A; PackageReference: CP-6-5; PackageDescription: 6-Lead Lead Frame Chip Scale Package [LFCSP_WD] 2 × 3 mm Body, Very Very Thin, Dual Lead; Supplier 1: Digi-Key; Supplier Part Number 1: AD5602BCPZ-2-RL7TR-ND; Supplier 2: Digi-Key; Supplier Part Number 2: AD5602BCPZ-2-RL7CT-ND; Supplier 3: Digi-Key; Supplier Part Number 3: AD5602BCPZ-2-RL7DKR-ND; Supplier 4: Mouser; Supplier Part Number 4: 584-AD5602BCPZ-2-R7; Packing: Reel; RoHS: Y; Mounting Technology: Surface Mount; Code_JEDEC: MO-229; ComponentLink1Description: Manufacturer URL; ComponentLink1URL: http://www.analog.com/en/index.html; ComponentLink2Description: Datasheet; ComponentLink2URL: http://www.analog.com/static/imported-files/data_sheets/AD5602_5612_5622.pdf; ComponentLink3Description: Package Specification; ComponentLink3URL: http://www.analog.com/static/imported-files/data_sheets/AD5062.pdf; ComponentLink4Description: Product URL; ComponentLink4URL: http://www.analog.com/en/digital-to-analog-converters/da-converters/ad5602/products/product.html
footprint CP-6-5_N (SON, 6-Leads, Body 3x2mm, Pitch 0.65mm, Thermal Pad 1.6x1.4mm, IPC Medium Density)
footprint CP-6-5_L (SON, 6-Leads, Body 3x2mm, Pitch 0.65mm, Thermal Pad 1.6x1.4mm, IPC High Density)
footprint CP-6-5_M (SON, 6-Leads, Body 3x2mm, Pitch 0.65mm, Thermal Pad 1.6x1.4mm, IPC Low Density)
pins: 1 ADDR (in) "Three-State Address Input. Sets the two least significant bits (Bit A1, Bit A0) of the 7-bit slave address (see Table 7).", 2 GND (power) "Ground. The ground reference point for all circuitry on the part.", 3 VOUT (hiz) "Analog Output Voltage from the DAC. The output amplifier has rail-to-rail operation.", 4 VDD (power) "Power Supply Input. These parts can be operated from 2.7 V to 5.5 V, and VDD should be decoupled to GND.", 5 SCL (in) "Serial Clock Line. This is used in conjunction with the SDA line to clock data into or out of the 16-bit input register.", 6 SDA (io) "Serial Data Line. This is used in conjunction with the SCL line to clock data into or out of the 16-bit input register. It is a bidirectional, open-drain data line that should be pulled to the supply with an external pull-up (See Datasheet)", 7 EP (power) "Exposed Pad. The exposed pad should be connected to ground (GND)."

## AD5602BKSZ-2REEL7
designator U?
Single 8-Bit nanoDAC with I2C Interface, 2.7 to 5.5 V, <100 uA, -40 to +85 degC, KS-6, Pb-Free, Reel; Generic Part Number: AD5602; Manufacturer: Analog Devices; PartNumber: AD5602BKSZ-2REEL7; # DAC Outputs: 1; Max V+: 5.5V; Op Pwr Diss: 500µW; Resolution (Bits): 8; Settling Time: 6µs; Single Supply: Yes; DatasheetVersion: Rev.C; PackageVersion: 072809-A; PackageReference: KS-6; PackageDescription: 6-Lead Thin Shrink Small Outline Transistor Package [SC70]; Supplier 1: Digi-Key; Supplier Part Number 1: AD5602BKSZ-2REEL7TR-ND; Supplier 2: Digi-Key; Supplier Part Number 2: AD5602BKSZ-2REEL7CT-ND; Supplier 3: Digi-Key; Supplier Part Number 3: AD5602BKSZ-2REEL7DKR-ND; Supplier 4: Newark; Supplier Part Number 4: 59K4258; Supplier 5: Mouser; Supplier Part Number 5: 584-AD5602BKSZ-2R7; Packing: Reel; RoHS: Y; Mounting Technology: Surface Mount; Code_JEDEC: MO-203-AB; ComponentLink1Description: Manufacturer URL; ComponentLink1URL: http://www.analog.com/en/index.html; ComponentLink2Description: Datasheet; ComponentLink2URL: http://www.analog.com/static/imported-files/data_sheets/AD5602_5612_5622.pdf; ComponentLink3Description: Package Specification; ComponentLink3URL: http://www.analog.com/static/imported-files/packages/PKG_PDF/SC70(KS)/KS_6.pdf; ComponentLink4Description: Product URL; ComponentLink4URL: http://www.analog.com/en/digital-to-analog-converters/da-converters/ad5602/products/product.html
footprint KS-6_N (SOT23, 6-Leads, Body 2x1.3mm, Pitch 0.65mm, Lead Span 2.1mm, IPC Medium Density)
footprint KS-6_L (SOT23, 6-Leads, Body 2x1.3mm, Pitch 0.65mm, Lead Span 2.1mm, IPC High Density)
footprint KS-6_M (SOT23, 6-Leads, Body 2x1.3mm, Pitch 0.65mm, Lead Span 2.1mm, IPC Low Density)
pins: 1 ADDR (in) "Three-State Address Input. Sets the two least significant bits (Bit A1, Bit A0) of the 7-bit slave address.", 2 SCL (in) "Serial Clock Line. This is used in conjunction with the SDA line to clock data into or out of the 16-bit input register.", 3 SDA (io) "Serial Data Line. This is used in conjunction with the SCL line to clock data into or out of the 16-bit input register. It is a bidirectional, open-drain data line that should be pulled to the supply with an external pull-up (See Datasheet)", 4 VDD (power) "Power Supply Input. These parts can be operated from 2.7 V to 5.5 V, and VDD should be decoupled to GND.", 5 GND (power) "Ground. The ground reference point for all circuitry on the part.", 6 VOUT (out) "Analog Output Voltage from the DAC. The output amplifier has rail-to-rail operation."

## AD5602BKSZ-2500RL7
designator U?
Single 8-Bit nanoDAC with I2C Interface, 2.7 to 5.5 V, <100 uA, -40 to +85 degC, KS-6, Pb-Free, Reel; Generic Part Number: AD5602; Manufacturer: Analog Devices; PartNumber: AD5602BKSZ-2500RL7; # DAC Outputs: 1; Max V+: 5.5V; Op Pwr Diss: 500µW; Resolution (Bits): 8; Settling Time: 6µs; Single Supply: Yes; DatasheetVersion: Rev.C; PackageVersion: 072809-A; PackageReference: KS-6; PackageDescription: 6-Lead Thin Shrink Small Outline Transistor Package [SC70]; Supplier 1: Digi-Key; Supplier Part Number 1: AD5602BKSZ-2500RL7TR-ND; Supplier 2: Digi-Key; Supplier Part Number 2: AD5602BKSZ-2500RL7CT-ND; Supplier 3: Digi-Key; Supplier Part Number 3: AD5602BKSZ-2500RL7DKR-ND; Supplier 4: Newark; Supplier Part Number 4: 59K4259; Supplier 5: Mouser; Supplier Part Number 5: 584-AD5602BKSZ2500R7; Packing: Reel; RoHS: Y; Mounting Technology: Surface Mount; Code_JEDEC: MO-203-AB; ComponentLink1Description: Manufacturer URL; ComponentLink1URL: http://www.analog.com/en/index.html; ComponentLink2Description: Datasheet; ComponentLink2URL: http://www.analog.com/static/imported-files/data_sheets/AD5602_5612_5622.pdf; ComponentLink3Description: Package Specification; ComponentLink3URL: http://www.analog.com/static/imported-files/packages/PKG_PDF/SC70(KS)/KS_6.pdf; ComponentLink4Description: Product URL; ComponentLink4URL: http://www.analog.com/en/digital-to-analog-converters/da-converters/ad5602/products/product.html
footprint KS-6_N (SOT23, 6-Leads, Body 2x1.3mm, Pitch 0.65mm, Lead Span 2.1mm, IPC Medium Density)
footprint KS-6_L (SOT23, 6-Leads, Body 2x1.3mm, Pitch 0.65mm, Lead Span 2.1mm, IPC High Density)
footprint KS-6_M (SOT23, 6-Leads, Body 2x1.3mm, Pitch 0.65mm, Lead Span 2.1mm, IPC Low Density)
pins: 1 ADDR (in) "Three-State Address Input. Sets the two least significant bits (Bit A1, Bit A0) of the 7-bit slave address.", 2 SCL (in) "Serial Clock Line. This is used in conjunction with the SDA line to clock data into or out of the 16-bit input register.", 3 SDA (io) "Serial Data Line. This is used in conjunction with the SCL line to clock data into or out of the 16-bit input register. It is a bidirectional, open-drain data line that should be pulled to the supply with an external pull-up (See Datasheet)", 4 VDD (power) "Power Supply Input. These parts can be operated from 2.7 V to 5.5 V, and VDD should be decoupled to GND.", 5 GND (power) "Ground. The ground reference point for all circuitry on the part.", 6 VOUT (out) "Analog Output Voltage from the DAC. The output amplifier has rail-to-rail operation."